# Altium schematic symbol library SCH - CONNECTORS - 8 PIN.SCHLIB: 2 symbols
Pins are listed as number, name and electrical type; pins without a type are passive.

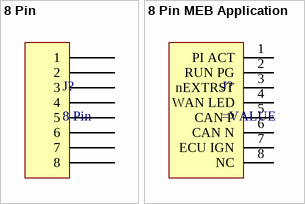
[diagram p0: symbols 8 Pin to 8 Pin MEB Application]

## 8 Pin
designator J?
pins: 1, 2, 3, 4, 5, 6, 7, 8

## 8 Pin MEB Application
designator J?
pins: 1 PI ACT, 2 RUN PG, 3 nEXTRST, 4 WAN LED, 5 CAN P, 6 CAN N, 7 ECU IGN, 8 NC
1 alternate drawing of the same symbol